# Altium footprint library components.PcbLib: 17 footprints (part 1 of 2)
Each footprint in its own frame and in the unit in brackets; x right, y up, seen from the top. Pads: shape width x height; smd on the part's side, far side on the other; paste and mask are expansions set on the pad; w line width, h text height; cw(c..) or ccw(c..) is an arc to the next point about the centre after c.
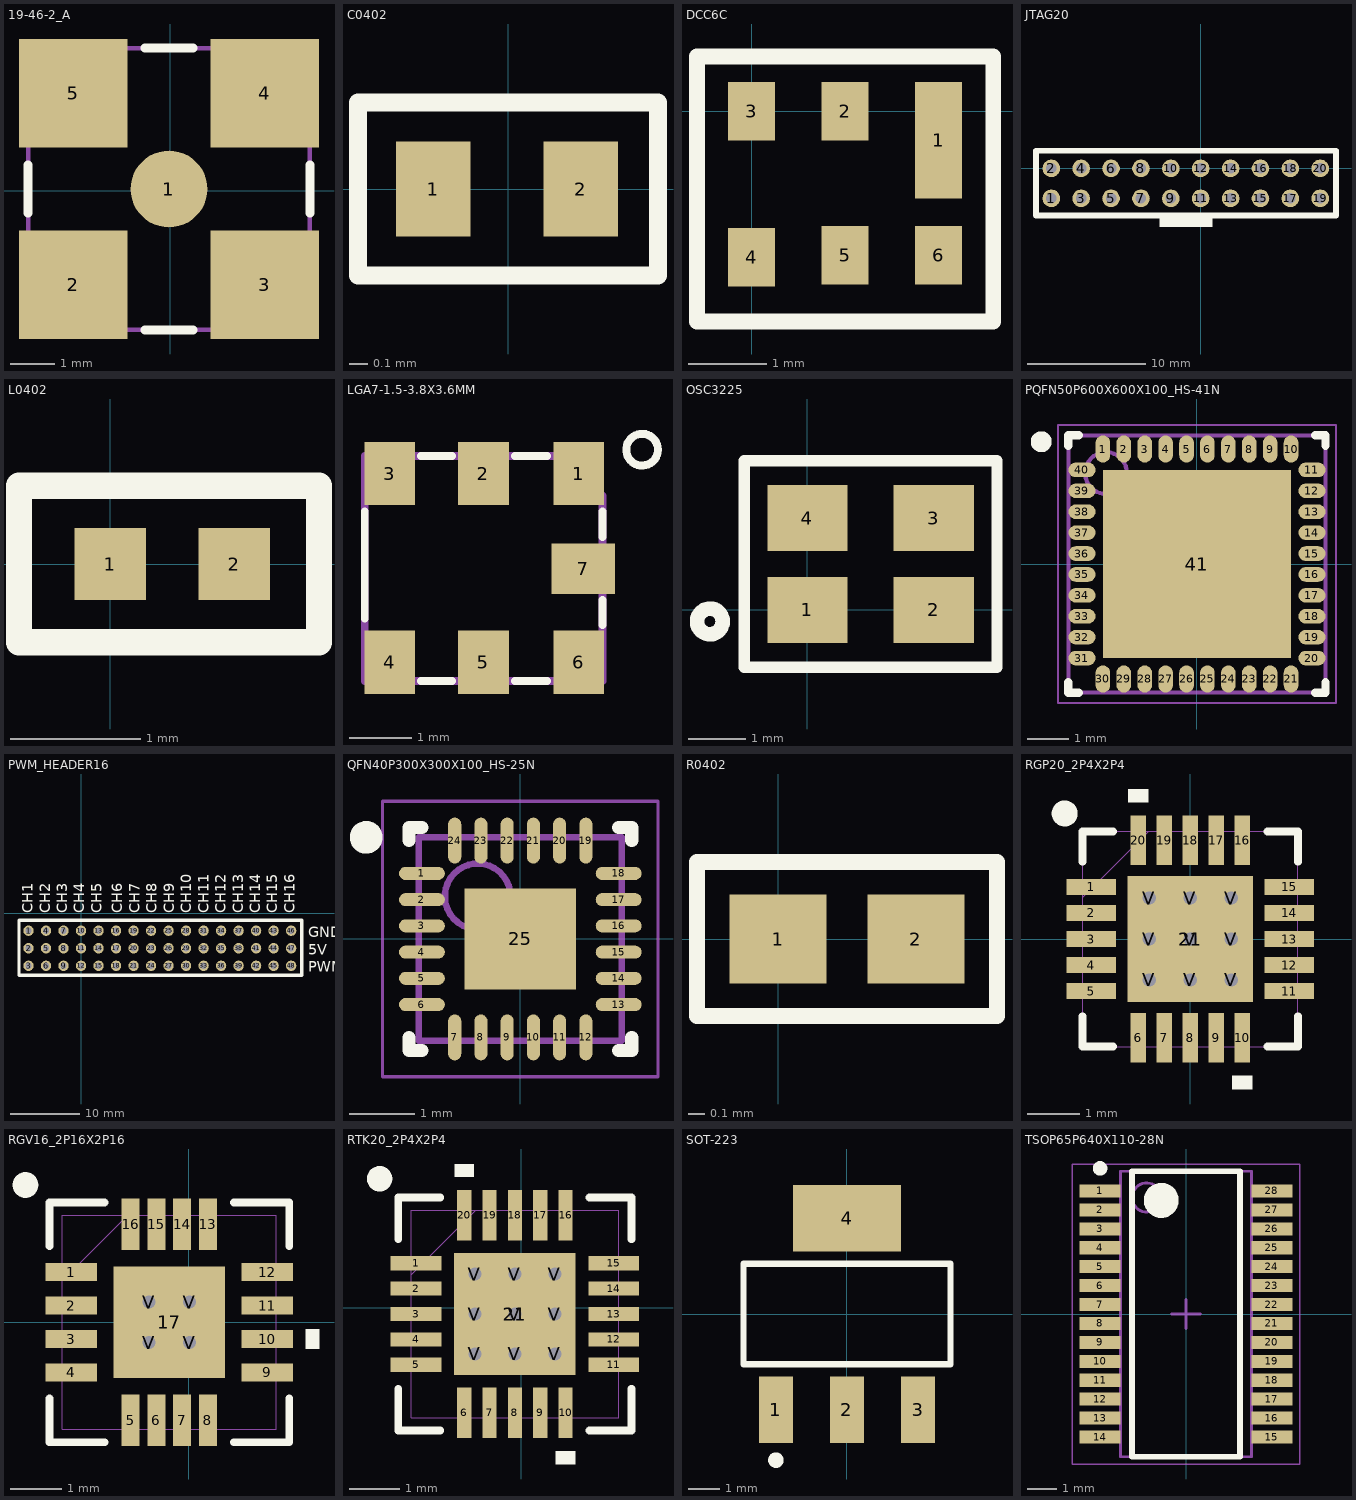
[diagram p0: the footprints below, top view; thin cyan lines are the x and y axes]

## 19-46-2_A [mm] "SMA mount"
height 10
pads (5):
  round 1.73 smd: 1(-0.032,0.036)
  rect 2.44x2.44 smd: 2(-2.192,-2.124) 3(2.128,-2.124) 4(2.128,2.196) 5(-2.192,2.196)
Top Overlay:
  lines w0.2: -3.207,-0.504 -3.207,0.576 ; -0.572,-3.139 0.508,-3.139 ; -0.572,3.211 0.508,3.211 ; 3.143,-0.504 3.143,0.576
Mechanical 13:
  lines w0.1: -3.207,-3.139 3.143,-3.139 3.143,3.211 -3.207,3.211 -3.207,-3.139
3D body: height 10.3, standoff 0, extent -3.206,-3.138 3.142,3.21

## C0402 [mm]
pads (2):
  rect 0.41x0.52 smd: 1(-0.41,0) 2(0.4,0)
Top Overlay:
  lines w0.1: -0.825,-0.475 -0.825,0.475 0.825,0.475 0.825,-0.475 -0.825,-0.475

## DCC6C [mm]
pads (6):
  rect 0.6x1.5 smd: 1(2.4,-0.375)
  rect 0.6x0.75 smd: 2(1.2,0) 3(0,0) 4(0,-1.875) 5(1.2,-1.85) 6(2.4,-1.85)
Top Overlay:
  lines w0.2: -0.7,-2.7 3.1,-2.7 3.1,0.7 -0.7,0.7 -0.7,-2.7

## JTAG20 [mm]
pads (20):
  round 1.5 hole 0.9: 1(-12.7,-2.54) 2(-12.7,0) 3(-10.16,-2.54) 4(-10.16,0) 5(-7.62,-2.54) 6(-7.62,0) 7(-5.08,-2.54) 8(-5.08,0) 9(-2.54,-2.54) 10(-2.54,0) 11(0,-2.54) 12(0,0) 13(2.54,-2.54) 14(2.54,0) 15(5.08,-2.54) 16(5.08,0) 17(7.62,-2.54) 18(7.62,0) 19(10.16,-2.54) 20(10.16,0)
Top Overlay:
  rectangle: -3.5,-5 1,-4
  lines w0.5: -14,-4 11.5,-4 11.5,1.5 -14,1.5 -14,-0.5 -14,-4

## L0402 [mm] "Inductor 0402"
pads (2):
  rect 0.55x0.55 smd: 1(0,0) 2(0.95,0)
Top Overlay:
  lines w0.2: -0.7,-0.6 -0.7,0 -0.7,0.6 1.6,0.6 1.6,-0.6 -0.7,-0.6

## LGA7-1.5-3.8X3.6MM [mil]
pads (7):
  rect 32x40 smd: 1(-49475,-49630) 2(-49535,-49630) 3(-49594.06,-49630) 4(-49594.06,-49749.06) 5(-49535,-49749.06) 6(-49475,-49749.06)
  rect 40x32 smd: 7(-49472,-49690)
Top Overlay:
  circle w5: c-49435,-49615 r10
  lines w5: -49609.8,-49721.5 -49609.8,-49654 ; -49574.37,-49760.87 -49554.68,-49760.87 ; -49574.37,-49619 -49554.68,-49619 ; -49515,-49760.87 -49495,-49760.87 ; -49515,-49619 -49495,-49619 ; -49460,-49725.43 -49460,-49709.68 ; -49460,-49670 -49460,-49654
Mechanical 13:
  text ".Designator" at -49595,-49590 h60
Mechanical 16:
  lines w5: -49609.8,-49760.87 -49609.8,-49619 -49485,-49619 -49460,-49644 -49460,-49760.87 -49609.8,-49760.87

## OSC3225 [mm]
pads (4):
  rect 1.4x1.15 smd: 1(0,0) 2(2.2,0) 3(2.2,1.6) 4(0,1.6)
Top Overlay:
  circle w0.254: c-1.7,-0.2 r0.224
  lines w0.2: -1.1,-1 -1.1,2.6 3.3,2.6 3.3,-1 -1.1,-1

## PQFN50P600X600X100_HS-41N [mm] "PQFN, 40-Leads, Body 6,00x6,00mm, Pitch 0,50mm, Thermal Pad 4,50x4,50mm, IPC Medium Density"
height 1
pads (41):
  oval 0.35x0.65 smd: 1(-2.25,2.75) 2(-1.75,2.75) 3(-1.25,2.75) 4(-0.75,2.75) 5(-0.25,2.75) 6(0.25,2.75) 7(0.75,2.75) 8(1.25,2.75) 9(1.75,2.75) 10(2.25,2.75) 21(2.25,-2.75) 22(1.75,-2.75) 23(1.25,-2.75) 24(0.75,-2.75) 25(0.25,-2.75) 26(-0.25,-2.75) 27(-0.75,-2.75) 28(-1.25,-2.75) 29(-1.75,-2.75) 30(-2.25,-2.75)
  oval 0.65x0.35 smd: 11(2.75,2.25) 12(2.75,1.75) 13(2.75,1.25) 14(2.75,0.75) 15(2.75,0.25) 16(2.75,-0.25) 17(2.75,-0.75) 18(2.75,-1.25) 19(2.75,-1.75) 20(2.75,-2.25) 31(-2.75,-2.25) 32(-2.75,-1.75) 33(-2.75,-1.25) 34(-2.75,-0.75) 35(-2.75,-0.25) 36(-2.75,0.25) 37(-2.75,0.75) 38(-2.75,1.25) 39(-2.75,1.75) 40(-2.75,2.25)
  rect 4.5x4.5 smd: 41(0,0)
Top Overlay:
  circle w0.25: c-3.725,2.925 r0.125
  lines w0.2: -3.075,-2.825 -3.075,-3.075 -2.825,-3.075 ; -3.075,2.825 -3.075,3.075 -2.825,3.075 ; 2.825,-3.075 3.075,-3.075 3.075,-2.825 ; 2.825,3.075 3.075,3.075 3.075,2.825
Mechanical 13:
  circle w0.1: c-2.175,2.175 r0.5
  lines w0.1: -3.075,-3.075 3.075,-3.075 3.075,3.075 -3.075,3.075 -3.075,-3.075
Mechanical 15:
  lines w0.05: -3.325,-3.325 3.325,-3.325 3.325,3.325 -3.325,3.325 -3.325,-3.325
  lines w0.1: -0.5,0 0.5,0 ; 0,-0.5 0,0.5
3D body: height 1, standoff 0, extent -3.075,-3.075 3.075,3.075

## PWM_HEADER16 [mm]
pads (48):
  round 1.5 hole 0.9: 1(-7.62,-2.54) 2(-7.62,-5.08) 3(-7.62,-7.62) 4(-5.08,-2.54) 5(-5.08,-5.08) 6(-5.08,-7.62) 7(-2.54,-2.54) 8(-2.54,-5.08) 9(-2.54,-7.62) 10(0,-2.54) 11(0,-5.08) 12(0,-7.62) 13(2.54,-2.54) 14(2.54,-5.08) 15(2.54,-7.62) 16(5.08,-2.54) 17(5.08,-5.08) 18(5.08,-7.62) 19(7.62,-2.54) 20(7.62,-5.08) 21(7.62,-7.62) 22(10.16,-2.54) 23(10.16,-5.08) 24(10.16,-7.62) 25(12.7,-2.54) 26(12.7,-5.08) 27(12.7,-7.62) 28(15.24,-2.54) 29(15.24,-5.08) 30(15.24,-7.62) 31(17.78,-2.54) 32(17.78,-5.08) 33(17.78,-7.62) 34(20.32,-2.54) 35(20.32,-5.08) 36(20.32,-7.62) 37(22.86,-2.54) 38(22.86,-5.08) 39(22.86,-7.62) 40(25.4,-2.54) 41(25.4,-5.08) 42(25.4,-7.62) 43(27.94,-2.54) 44(27.94,-5.08) 45(27.94,-7.62) 46(30.48,-2.54) 47(30.48,-5.08) 48(30.48,-7.62)
Top Overlay:
  lines w0.5: -9,-9 -9,-1 32,-1 32,-9 -9,-9
  text "CH16" at 31,0 h1.52
  text "CH15" at 28.5,0 h1.52
  text "CH14" at 26,0 h1.52
  text "CH13" at 23.5,0 h1.52
  text "CH12" at 21,0 h1.52
  text "CH11" at 18.5,0 h1.52
  text "CH10" at 16,0 h1.52
  text "CH9" at 13.5,0 h1.52
  text "CH8" at 11,0 h1.52
  text "CH7" at 8.5,0 h1.52
  text "CH6" at 6,0 h1.52
  text "CH5" at 3,0 h1.52
  text "CH4" at 0.5,0 h1.52
  text "CH3" at -2,0 h1.52
  text "CH2" at -4.5,0 h1.52
  text "CH1" at -7,0 h1.52
  text "GND" at 33,-3.5 h1.52
  text "5V" at 33,-6 h1.52
  text "PWM" at 33,-8.5 h1.52

## QFN40P300X300X100_HS-25N [mm] "QFN, 24-Leads, Body 3,00x3,00mm, Pitch 0,40mm, Thermal Pad 1,70x1,54mm, IPC Medium Density"
height 1
pads (25):
  oval 0.7x0.2 smd: 1(-1.5,1) 2(-1.5,0.6) 3(-1.5,0.2) 4(-1.5,-0.2) 5(-1.5,-0.6) 6(-1.5,-1) 13(1.5,-1) 14(1.5,-0.6) 15(1.5,-0.2) 16(1.5,0.2) 17(1.5,0.6) 18(1.5,1)
  oval 0.2x0.7 smd: 7(-1,-1.5) 8(-0.6,-1.5) 9(-0.2,-1.5) 10(0.2,-1.5) 11(0.6,-1.5) 12(1,-1.5) 19(1,1.5) 20(0.6,1.5) 21(0.2,1.5) 22(-0.2,1.5) 23(-0.6,1.5) 24(-1,1.5)
  rect 1.7x1.54 smd: 25(0,0)
Top Overlay:
  circle w0.25: c-2.35,1.55 r0.125
  lines w0.2: -1.7,-1.5 -1.7,-1.7 -1.5,-1.7 ; -1.7,1.5 -1.7,1.7 -1.5,1.7 ; 1.5,-1.7 1.7,-1.7 1.7,-1.5 ; 1.5,1.7 1.7,1.7 1.7,1.5
Mechanical 13:
  circle w0.1: c-0.65,0.65 r0.5
  lines w0.1: -1.55,-1.55 1.55,-1.55 1.55,1.55 -1.55,1.55 -1.55,-1.55
Mechanical 15:
  lines w0.05: -2.1,-2.1 2.1,-2.1 2.1,2.1 -2.1,2.1 -2.1,-2.1
  lines w0.1: -0.5,0 0.5,0 ; 0,-0.5 0,0.5
3D body: height 1, standoff 0.01, extent -1.55,-1.55 1.55,1.55

## R0402 [mm]
pads (2):
  rect 0.6x0.55 smd: 1(0,0) 2(0.85,0)
Top Overlay:
  lines w0.1: -0.5,-0.475 1.35,-0.475 1.35,0.475 -0.5,0.475 -0.5,-0.475

## RGP20_2P4X2P4 [mil] "S-PQVFN-N20"
pads (30):
  rect 37.5x12 smd: 1(-74.75,39.37) 2(-74.75,19.68) 3(-74.75,0) 4(-74.75,-19.68) 5(-74.75,-39.37) 11(74.75,-39.37) 12(74.75,-19.68) 13(74.75,0) 14(74.75,19.68) 15(74.75,39.37)
  rect 12x37.5 smd: 6(-39.37,-74.75) 7(-19.68,-74.75) 8(0,-74.75) 9(19.68,-74.75) 10(39.37,-74.75) 16(39.37,74.75) 17(19.68,74.75) 18(0,74.75) 19(-19.68,74.75) 20(-39.37,74.75)
  rect 95x95 smd paste-47 mask-47: 21(0,0)
  round 20 / inner round 60 / far side round 20 hole 10: V(-31,-31) V(-31,0) V(-31,31) V(0,-31) V(0,0) V(0,31) V(31,-31) V(31,0) V(31,31)
Top Overlay:
  circle w9.84: c-95,95 r4.92
  region: -31.87,103.5 -46.87,103.5 -46.87,113.5 -31.87,113.5
  region: 46.87,-103.5 31.87,-103.5 31.87,-113.5 46.87,-113.5
  lines w6: -81.5,-58.47 -81.5,-81.5 -58.47,-81.5 ; -81.5,58.47 -81.5,81.5 -58.47,81.5 ; 58.47,-81.5 81.5,-81.5 81.5,-58.47 ; 58.47,81.5 81.5,81.5 81.5,58.47
Top Paste:
  drawing of 16 lines, arcs and shapes, not listed
Top Solder:
  region: 38.87,-50 38.87,50 50,50 50,-50
  region: 23.13,-50 23.13,50 7.87,50 7.87,-50
  region: -7.87,-50 -7.87,50 -23.13,50 -23.13,-50
  region: -50,-50 -50,50 -38.87,50 -38.87,-50
  region: -50,-50 -50,-38.87 50,-38.87 50,-50
  region: -50,-23.13 -50,-7.87 50,-7.87 50,-23.13
  region: -50,7.87 -50,23.13 50,23.13 50,7.87
  region: -50,38.87 -50,50 50,50 50,38.87
Mechanical 1:
  lines w0: -81.5,31.5 -31.5,81.5 ; -81.5,-81.5 -81.5,81.5 81.5,81.5 81.5,-81.5 -81.5,-81.5 ; -81.5,-45.37 -81.5,-33.37 -81.5,-45.37 ; -81.5,-25.68 -81.5,-13.69 -81.5,-25.68 ; -81.5,-6 -81.5,6 -81.5,-6 ; -81.5,13.69 -81.5,25.68 -81.5,13.69 ; -81.5,33.37 -81.5,45.37 -81.5,33.37 ; -45.37,-81.5 -33.37,-81.5 -45.37,-81.5 ; -45.37,81.5 -33.37,81.5 -45.37,81.5 ; -25.68,-81.5 -13.69,-81.5 -25.68,-81.5 ; -25.68,81.5 -13.69,81.5 -25.68,81.5 ; -6,-81.5 6,-81.5 -6,-81.5 ; -6,81.5 6,81.5 -6,81.5 ; 13.69,-81.5 25.68,-81.5 13.69,-81.5 ; 13.69,81.5 25.68,81.5 13.69,81.5 ; 33.37,-81.5 45.37,-81.5 33.37,-81.5 ; 33.37,81.5 45.37,81.5 33.37,81.5 ; 81.5,-45.37 81.5,-33.37 81.5,-45.37 ; 81.5,-25.68 81.5,-13.69 81.5,-25.68 ; 81.5,-6 81.5,6 81.5,-6 ; 81.5,13.69 81.5,25.68 81.5,13.69 ; 81.5,33.37 81.5,45.37 81.5,33.37

## RGV16_2P16X2P16 [mm] "S-PQVFN-N16"
pads (21):
  rect 1x0.35 smd paste-0.175: 1(-2.281,0.975) 2(-2.281,0.325) 3(-2.281,-0.325) 4(-2.281,-0.975) 9(1.519,-0.975) 10(1.519,-0.325) 11(1.519,0.325) 12(1.519,0.975)
  rect 0.35x1 smd paste-0.175: 5(-1.131,-1.9) 6(-0.631,-1.9) 7(-0.131,-1.9) 8(0.369,-1.9) 13(0.369,1.9) 14(-0.131,1.9) 15(-0.631,1.9) 16(-1.131,1.9)
  rect 2.16x2.16 smd paste-1.067 mask-1.067: 17(-0.381,0)
  round 0.508 / inner round 1.524 / far side round 0.508 hole 0.254: V(-0.775,-0.394) V(-0.775,0.394) V(0.013,-0.394) V(0.013,0.394)
Top Overlay:
  circle w0.25: c-3.175,2.667 r0.125
  region: 2.273,-0.135 2.527,-0.135 2.527,-0.516 2.273,-0.516
  lines w0.152: -2.71,-1.483 -2.71,-2.329 -1.639,-2.329 ; -2.71,1.483 -2.71,2.329 -1.639,2.329 ; 0.877,-2.329 1.948,-2.329 1.948,-1.483 ; 0.877,2.329 1.948,2.329 1.948,1.483
Top Paste:
  region: 0.624,-0.494 0.254,-0.494 0.113,-0.635 0.113,-1.005 0.624,-1.005
  region: 0.624,0.294 0.254,0.294 0.113,0.152 0.113,-0.152 0.254,-0.294 0.624,-0.294
  region: 0.624,1.005 0.113,1.005 0.113,0.635 0.254,0.494 0.624,0.494
  region: -0.229,-0.494 -0.533,-0.494 -0.675,-0.635 -0.675,-1.005 -0.087,-1.005 -0.087,-0.635
  region: -0.229,0.294 -0.533,0.294 -0.675,0.152 -0.675,-0.152 -0.533,-0.294 -0.229,-0.294 -0.087,-0.152 -0.087,0.152
  region: -0.087,1.005 -0.675,1.005 -0.675,0.635 -0.533,0.494 -0.229,0.494 -0.087,0.635
  region: -1.016,-0.494 -1.386,-0.494 -1.386,-1.005 -0.875,-1.005 -0.875,-0.635
  region: -1.016,0.294 -1.386,0.294 -1.386,-0.294 -1.016,-0.294 -0.875,-0.152 -0.875,0.152
  region: -0.875,1.005 -1.386,1.005 -1.386,0.494 -1.016,0.494 -0.875,0.635
  region: -0.981,2.375 -1.281,2.375 -1.281,1.425 -0.981,1.425
  region: -0.481,2.375 -0.781,2.375 -0.781,1.425 -0.481,1.425
  region: 0.019,2.375 -0.281,2.375 -0.281,1.425 0.019,1.425
  region: 0.519,2.375 0.219,2.375 0.219,1.425 0.519,1.425
  region: 1.994,1.125 1.044,1.125 1.044,0.825 1.994,0.825
  region: 1.994,0.475 1.044,0.475 1.044,0.175 1.994,0.175
  region: 1.994,-0.175 1.044,-0.175 1.044,-0.475 1.994,-0.475
  region: 1.994,-0.825 1.044,-0.825 1.044,-1.125 1.994,-1.125
  region: 0.519,-1.425 0.219,-1.425 0.219,-2.375 0.519,-2.375
  region: 0.019,-1.425 -0.281,-1.425 -0.281,-2.375 0.019,-2.375
  region: -0.481,-1.425 -0.781,-1.425 -0.781,-2.375 -0.481,-2.375
  region: -0.981,-1.425 -1.281,-1.425 -1.281,-2.375 -0.981,-2.375
  region: -1.806,-0.825 -2.756,-0.825 -2.756,-1.125 -1.806,-1.125
  region: -1.806,-0.175 -2.756,-0.175 -2.756,-0.475 -1.806,-0.475
  region: -1.806,0.475 -2.756,0.475 -2.756,0.175 -1.806,0.175
  region: -1.806,1.125 -2.756,1.125 -2.756,0.825 -1.806,0.825
Top Solder:
  region: 0.213,-1.144 0.213,1.144 0.763,1.144 0.763,-1.144
  region: -0.187,-1.144 -0.187,1.144 -0.575,1.144 -0.575,-1.144
  region: -1.525,-1.144 -1.525,1.144 -0.975,1.144 -0.975,-1.144
  region: -1.525,-1.144 -1.525,-0.594 0.763,-0.594 0.763,-1.144
  region: -1.525,-0.194 -1.525,0.194 0.763,0.194 0.763,-0.194
  region: -1.525,0.594 -1.525,1.144 0.763,1.144 0.763,0.594
  region: -0.887,2.47 -1.376,2.47 -1.376,1.33 -0.887,1.33
  region: -0.386,2.47 -0.876,2.47 -0.876,1.33 -0.386,1.33
  region: 0.114,2.47 -0.376,2.47 -0.376,1.33 0.114,1.33
  region: 0.614,2.47 0.125,2.47 0.125,1.33 0.614,1.33
  region: 2.089,1.22 0.949,1.22 0.949,0.73 2.089,0.73
  region: 2.089,0.57 0.949,0.57 0.949,0.08 2.089,0.08
  region: 2.089,-0.08 0.949,-0.08 0.949,-0.57 2.089,-0.57
  region: 2.089,-0.73 0.949,-0.73 0.949,-1.22 2.089,-1.22
  region: 0.614,-1.33 0.125,-1.33 0.125,-2.47 0.614,-2.47
  region: 0.114,-1.33 -0.376,-1.33 -0.376,-2.47 0.114,-2.47
  region: -0.386,-1.33 -0.876,-1.33 -0.876,-2.47 -0.386,-2.47
  region: -0.887,-1.33 -1.376,-1.33 -1.376,-2.47 -0.887,-2.47
  region: -1.711,-0.73 -2.851,-0.73 -2.851,-1.22 -1.711,-1.22
  region: -1.711,-0.08 -2.851,-0.08 -2.851,-0.57 -1.711,-0.57
  region: -1.711,0.57 -2.851,0.57 -2.851,0.08 -1.711,0.08
  region: -1.711,1.22 -2.851,1.22 -2.851,0.73 -1.711,0.73
Mechanical 1:
  lines w0: -2.456,0.805 -1.186,2.075 ; -2.456,-2.075 -2.456,2.075 1.694,2.075 1.694,-2.075 -2.456,-2.075 ; -2.456,-1.165 -2.456,-0.785 -2.456,-1.165 ; -2.456,-0.515 -2.456,-0.135 -2.456,-0.515 ; -2.456,0.135 -2.456,0.515 -2.456,0.135 ; -2.456,0.785 -2.456,1.165 -2.456,0.785 ; -1.546,-2.075 -1.166,-2.075 -1.546,-2.075 ; -1.546,2.075 -1.166,2.075 -1.546,2.075 ; -0.896,-2.075 -0.516,-2.075 -0.896,-2.075 ; -0.896,2.075 -0.516,2.075 -0.896,2.075 ; -0.246,-2.075 0.134,-2.075 -0.246,-2.075 ; -0.246,2.075 0.134,2.075 -0.246,2.075 ; 0.404,-2.075 0.784,-2.075 0.404,-2.075 ; 0.404,2.075 0.784,2.075 0.404,2.075 ; 1.694,-1.165 1.694,-0.785 1.694,-1.165 ; 1.694,-0.515 1.694,-0.135 1.694,-0.515 ; 1.694,0.135 1.694,0.515 1.694,0.135 ; 1.694,0.785 1.694,1.165 1.694,0.785

## RTK20_2P4X2P4 [mil] "S-PQVFN-N20"
pads (30):
  rect 39.37x11.02 smd paste-5.51: 1(-81.77,34.37) 2(-81.77,14.69) 3(-81.77,-5) 4(-81.77,-24.68) 5(-81.77,-44.37) 11(71.77,-44.37) 12(71.77,-24.68) 13(71.77,-5) 14(71.77,14.69) 15(71.77,34.37)
  rect 11.02x39.37 smd paste-5.51: 6(-44.37,-81.77) 7(-24.68,-81.77) 8(-5,-81.77) 9(14.69,-81.77) 10(34.37,-81.77) 16(34.37,71.77) 17(14.69,71.77) 18(-5,71.77) 19(-24.68,71.77) 20(-44.37,71.77)
  rect 94.49x94.49 smd paste-46.74 mask-46.5: 21(-5,-5)
  round 20 / inner round 60 / far side round 20 hole 10: V(-36,-36) V(-36,-5) V(-36,26) V(-5,-36) V(-5,-5) V(-5,26) V(26,-36) V(26,-5) V(26,26)
Top Overlay:
  circle w9.84: c-110,100 r4.92
  region: -36.87,101.46 -51.87,101.46 -51.87,111.46 -36.87,111.46
  region: 41.87,-111.46 26.87,-111.46 26.87,-121.46 41.87,-121.46
  lines w6: -95.5,-62.98 -95.5,-95.5 -62.98,-95.5 ; -95.5,52.98 -95.5,85.5 -62.98,85.5 ; 52.98,-95.5 85.5,-95.5 85.5,-62.98 ; 52.98,85.5 85.5,85.5 85.5,52.98
Top Paste:
  drawing of 36 lines, arcs and shapes, not listed
Top Solder:
  region: 33.87,-54.74 33.87,44.74 44.74,44.74 44.74,-54.74
  region: 18.13,-54.74 18.13,44.74 2.87,44.74 2.87,-54.74
  region: -12.87,-54.74 -12.87,44.74 -28.13,44.74 -28.13,-54.74
  region: -54.74,-54.74 -54.74,44.74 -43.87,44.74 -43.87,-54.74
  region: -54.74,-54.74 -54.74,-43.87 44.74,-43.87 44.74,-54.74
  region: -54.74,-28.13 -54.74,-12.87 44.74,-12.87 44.74,-28.13
  region: -54.74,2.87 -54.74,18.13 44.74,18.13 44.74,2.87
  region: -54.74,33.87 -54.74,44.74 44.74,44.74 44.74,33.87
  region: -36.1,94.21 -52.64,94.21 -52.64,49.33 -36.1,49.33
  region: -16.42,94.21 -32.95,94.21 -32.95,49.33 -16.42,49.33
  region: 3.27,94.21 -13.27,94.21 -13.27,49.33 3.27,49.33
  region: 22.95,94.21 6.42,94.21 6.42,49.33 22.95,49.33
  region: 42.64,94.21 26.1,94.21 26.1,49.33 42.64,49.33
  region: 94.21,42.64 49.33,42.64 49.33,26.1 94.21,26.1
  region: 94.21,22.95 49.33,22.95 49.33,6.42 94.21,6.42
  region: 94.21,3.27 49.33,3.27 49.33,-13.27 94.21,-13.27
  region: 94.21,-16.42 49.33,-16.42 49.33,-32.95 94.21,-32.95
  region: 94.21,-36.1 49.33,-36.1 49.33,-52.64 94.21,-52.64
  region: 42.64,-59.33 26.1,-59.33 26.1,-104.21 42.64,-104.21
  region: 22.95,-59.33 6.42,-59.33 6.42,-104.21 22.95,-104.21
  region: 3.27,-59.33 -13.27,-59.33 -13.27,-104.21 3.27,-104.21
  region: -16.42,-59.33 -32.95,-59.33 -32.95,-104.21 -16.42,-104.21
  region: -36.1,-59.33 -52.64,-59.33 -52.64,-104.21 -36.1,-104.21
  region: -59.33,-36.1 -104.21,-36.1 -104.21,-52.64 -59.33,-52.64
  region: -59.33,-16.42 -104.21,-16.42 -104.21,-32.95 -59.33,-32.95
  region: -59.33,3.27 -104.21,3.27 -104.21,-13.27 -59.33,-13.27
  region: -59.33,22.95 -104.21,22.95 -104.21,6.42 -59.33,6.42
  region: -59.33,42.64 -104.21,42.64 -104.21,26.1 -59.33,26.1
Mechanical 1:
  lines w0: -85.5,25.5 -35.5,75.5 ; -85.5,-85.5 -85.5,75.5 75.5,75.5 75.5,-85.5 -85.5,-85.5 ; -85.5,-50.37 -85.5,-38.37 -85.5,-50.37 ; -85.5,-30.68 -85.5,-18.68 -85.5,-30.68 ; -85.5,-11 -85.5,1 -85.5,-11 ; -85.5,8.69 -85.5,20.68 -85.5,8.69 ; -85.5,28.37 -85.5,40.37 -85.5,28.37 ; -50.37,-85.5 -38.37,-85.5 -50.37,-85.5 ; -50.37,75.5 -38.37,75.5 -50.37,75.5 ; -30.68,-85.5 -18.68,-85.5 -30.68,-85.5 ; -30.68,75.5 -18.68,75.5 -30.68,75.5 ; -11,-85.5 1,-85.5 -11,-85.5 ; -11,75.5 1,75.5 -11,75.5 ; 8.69,-85.5 20.68,-85.5 8.69,-85.5 ; 8.69,75.5 20.68,75.5 8.69,75.5 ; 28.37,-85.5 40.37,-85.5 28.37,-85.5 ; 28.37,75.5 40.37,75.5 28.37,75.5 ; 75.5,-50.37 75.5,-38.37 75.5,-50.37 ; 75.5,-30.68 75.5,-18.68 75.5,-30.68 ; 75.5,-11 75.5,1 75.5,-11 ; 75.5,8.69 75.5,20.68 75.5,8.69 ; 75.5,28.37 75.5,40.37 75.5,28.37

## SOT-223 [mm] "SOT-223/SC-73; 4 Leads; Body 6.7 x 7.3 mm, inc. leads (LxW max)"
height 1.8
pads (4):
  rect 1.1x2.15 smd: 1(-2.3,-3.1) 2(0,-3.1) 3(2.3,-3.1)
  rect 3.5x2.15 smd: 4(0,3.1)
Top Overlay:
  circle w0.25: c-2.3,-4.725 r0.125
  lines w0.2: -3.35,-1.625 3.35,-1.625 3.35,1.625 -3.35,1.625 -3.35,-1.625

## TSOP65P640X110-28N [mm] "TSOP, 28-Leads, Body 9,70x4,40mm, Pitch 0,65mm, IPC Medium Density"
height 1.1
pads (28):
  rect 1.4x0.45 smd: 1(-2.95,4.225) 2(-2.95,3.575) 3(-2.95,2.925) 4(-2.95,2.275) 5(-2.95,1.625) 6(-2.95,0.975) 7(-2.95,0.325) 8(-2.95,-0.325) 9(-2.95,-0.975) 10(-2.95,-1.625) 11(-2.95,-2.275) 12(-2.95,-2.925) 13(-2.95,-3.575) 14(-2.95,-4.225) 15(2.95,-4.225) 16(2.95,-3.575) 17(2.95,-2.925) 18(2.95,-2.275) 19(2.95,-1.625) 20(2.95,-0.975) 21(2.95,-0.325) 22(2.95,0.325) 23(2.95,0.975) 24(2.95,1.625) 25(2.95,2.275) 26(2.95,2.925) 27(2.95,3.575) 28(2.95,4.225)
Top Overlay:
  circle w0.25: c-2.95,5 r0.125
  circle w0.6: c-0.85,3.9 r0.3
  lines w0.2: -1.85,-4.9 -1.85,4.9 1.85,4.9 1.85,-4.9 -1.85,-4.9
Mechanical 13:
  circle w0.1: c-1.35,4 r0.5
  lines w0.1: -2.25,-4.9 -2.25,4.9 2.25,4.9 2.25,-4.9 -2.25,-4.9
Mechanical 15:
  lines w0.05: -3.9,-5.15 -3.9,5.15 3.9,5.15 3.9,-5.15 -3.9,-5.15
  lines w0.1: -0.5,0 0.5,0 ; 0,-0.5 0,0.5
3D body: height 1.1, standoff 0.05, extent -2.25,-4.9 2.25,4.9